# EAGLE library part LTC2634-QFN16 (library Neel)
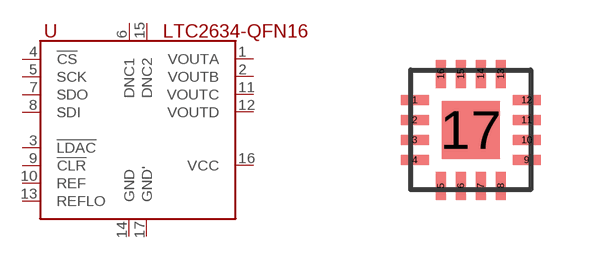
[diagram p27: symbol with the pads of QFN-16; footprint QFN-16]

Designator prefix -

## LTC2634-QFN16  [QFN-16]
1  VOUTA
2  VOUTB
3  !LDAC
4  !CS
5  SCK
6  DNC1
7  SDO
8  SDI
9  !CLR
10  REF
11  VOUTC
12  VOUTD
13  REFLO
14  GND
15  DNC2
16  VCC
17  GND'

## Footprint QFN-16 (pad centres in mm)
smd 0.7 x 0.25: 1 -1.4,0.75; 2 -1.4,0.25; 3 -1.4,-0.25; 4 -1.4,-0.75; 9 1.4,-0.75; 10 1.4,-0.25; 11 1.4,0.25; 12 1.4,0.75
smd 0.25 x 0.7: 5 -0.75,-1.4; 6 -0.25,-1.4; 7 0.25,-1.4; 8 0.75,-1.4; 13 0.75,1.4; 14 0.25,1.4; 15 -0.25,1.4; 16 -0.75,1.4
smd 1.45 x 1.45: 17 0,0